# Altium footprint library MOS.PcbLib: 1 footprints
Each footprint in its own frame and in the unit in brackets; x right, y up, seen from the top. Pads: shape width x height; smd on the part's side, far side on the other; paste and mask are expansions set on the pad; w line width, h text height; cw(c..) or ccw(c..) is an arc to the next point about the centre after c.
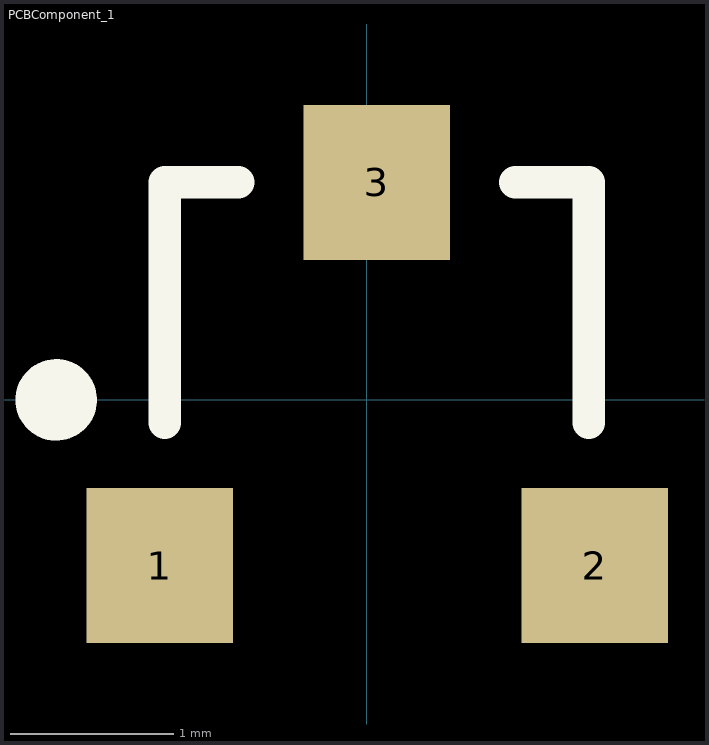
[diagram p0: the footprint, top view; thin cyan lines are the x and y axes]

## PCBComponent_1 [mm]
pads (3):
  rect 0.9x0.95 smd: 1(-1.27,-1.016) 2(1.397,-1.016) 3(0.061,1.334)
Top Overlay:
  circle w0.25: c-1.905,0 r0.125
  lines w0.2: -1.239,-0.141 -1.239,1.334 -0.789,1.334 ; 0.911,1.334 1.361,1.334 1.361,-0.141